# Altium schematic symbol library Sch_lib.SchLib: 5 symbols
Pins are listed as number, name and electrical type; pins without a type are passive.

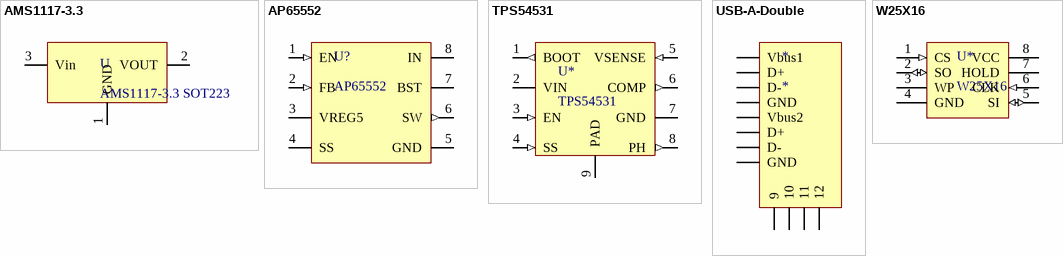
[diagram p0: symbols AMS1117-3.3 to W25X16]

## AMS1117-3.3
designator U, comment AMS1117-3.3 SOT223
footprint SOT223_L (SOT223, 4-Leads, Body 6.5x3.5mm, Pitch 2.3mm, Lead Span 7mm, IPC High Density)
pins: 1 GND, 2 VOUT (power), 3 Vin (power)

## AP65552
designator U?
pins: 1 EN (in), 2 FB (in), 3 VREG5, 4 SS, 5 GND, 6 SW (out), 7 BST, 8 IN (power)

## TPS54531
designator U*
pins: 1 BOOT (out), 2 VIN (power), 3 EN (in), 4 SS (in), 5 VSENSE (in), 6 COMP (out), 7 GND, 8 PH (out), 9 PAD

## USB-A-Double
designator *
pins: 1 Vbus1, 2 D+, 3 D-, 4 GND, 5 Vbus2, 6 D+, 7 D-, 8 GND, 9, 10, 11, 12

## W25X16
designator U*
footprint SOIC-SSCODE_SOIC127P790X216-8N (SOIC, 8-Leads, Body 5.28x5.28mm, Pitch 1.27mm, IPC Medium Density)
pins: 1 CS (in), 2 SO (io), 3 WP (power), 4 GND, 5 SI (io), 6 CLK (in), 7 HOLD, 8 VCC (power)